# EAGLE library part TER6PIN_VERT (library TE6Pin)
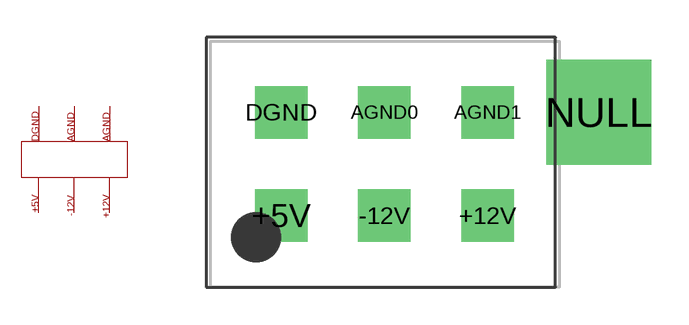
[diagram p0: symbol with the pads of CAPSTONE_1-770875-0; footprint CAPSTONE_1-770875-0]

Designator prefix -

## TER6PIN_VERT  [CAPSTONE_1-770875-0]
+5V  +5V
+12V  +12V
-12V  -12V
AGND0  AGND0
AGND1  AGND1
DGND  DGND
NULL  DGND

## Footprint CAPSTONE_1-770875-0 (pad centres in mm)
drill 1.4 square: +5V 0,-4.14; +12V 8.28,-4.14; -12V 4.14,-4.14; AGND0 4.14,0; AGND1 8.28,0; DGND 0,0
drill 3.18 square: NULL 12.73,0